# Altium footprint library 74655095.PcbLib: 1 footprints
Each footprint in its own frame and in the unit in brackets; x right, y up, seen from the top. Pads: shape width x height; smd on the part's side, far side on the other; paste and mask are expansions set on the pad; w line width, h text height; cw(c..) or ccw(c..) is an arc to the next point about the centre after c.
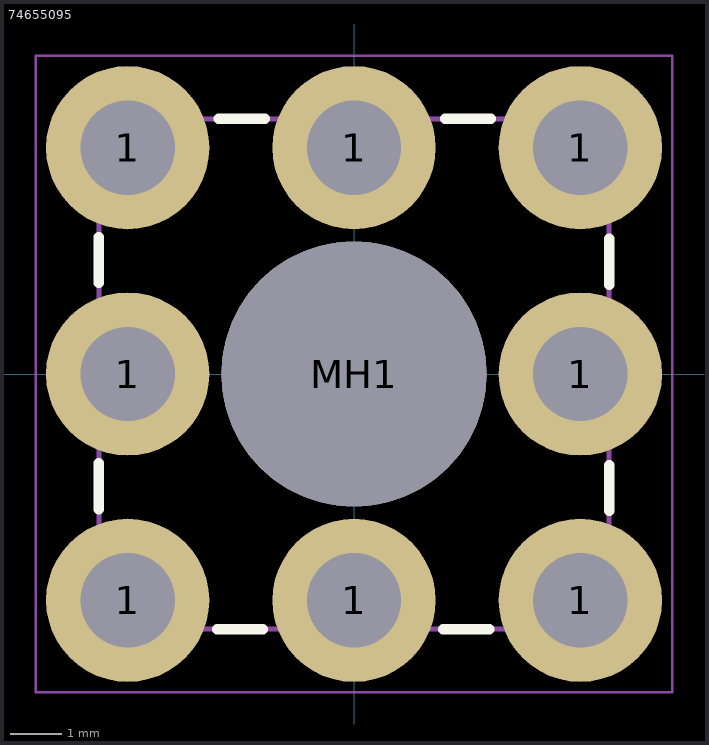
[diagram p0: the footprint, top view; thin cyan lines are the x and y axes]

## 74655095 [mm]
pads (9):
  round 3.2 hole 1.85: 1(-4.435,-4.435) 1(-4.435,0) 1(-4.435,4.435) 1(0,-4.435) 1(0,4.435) 1(4.435,-4.435) 1(4.435,0) 1(4.435,4.435)
  round 5.2 hole 5.2 unplated: MH1(0,0)
Top Overlay:
  lines w0.2: -5,-2.65 -5,-1.75 ; -5,1.785 -5,2.685 ; -2.685,-5 -1.785,-5 ; -2.65,5 -1.75,5 ; 1.75,-5 2.65,-5 ; 1.785,5 2.685,5 ; 5,-2.685 5,-1.785 ; 5,1.75 5,2.65
Top Paste:
  drawing of 8 lines, arcs and shapes, not listed
Top Assembly:
  lines w0.1: -5,-5 -5,5 5,5 5,-5 -5,-5
Top Courtyard:
  lines w0.05: -0.5,0 0.5,0 ; 0,-0.5 0,0.5 ; -6.235,-6.235 -6.235,6.235 6.235,6.235 6.235,-6.235 -6.235,-6.235
3D body "74655095.stp": height 4, standoff -2.5, extent -5,-5 5,5